# EAGLE library part NRFL24L01_8P (library piweather)
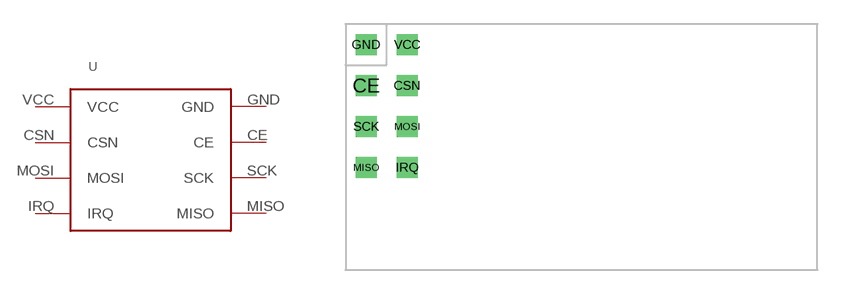
[diagram p3: symbol with the pads of NRF24L01_10P; footprint NRF24L01_10P]

Designator prefix -

## NRFL24L01_8P  [NRF24L01_10P]
CE  CE
CSN  CSN
GND  GND
IRQ  IRQ
MISO  MISO
MOSI  MOSI
SCK  SCK
VCC  VCC

## Footprint NRF24L01_10P (pad centres in mm)
drill 0.8 square: CE -3.81,2.54; CSN -1.27,2.54; GND -3.81,5.08; IRQ -1.27,-2.54; MISO -3.81,-2.54; MOSI -1.27,0; SCK -3.81,0; VCC -1.27,5.08